# Altium integrated library Maxim Digital Potentiometers.IntLib: 1045 symbols (part 13 of 42)
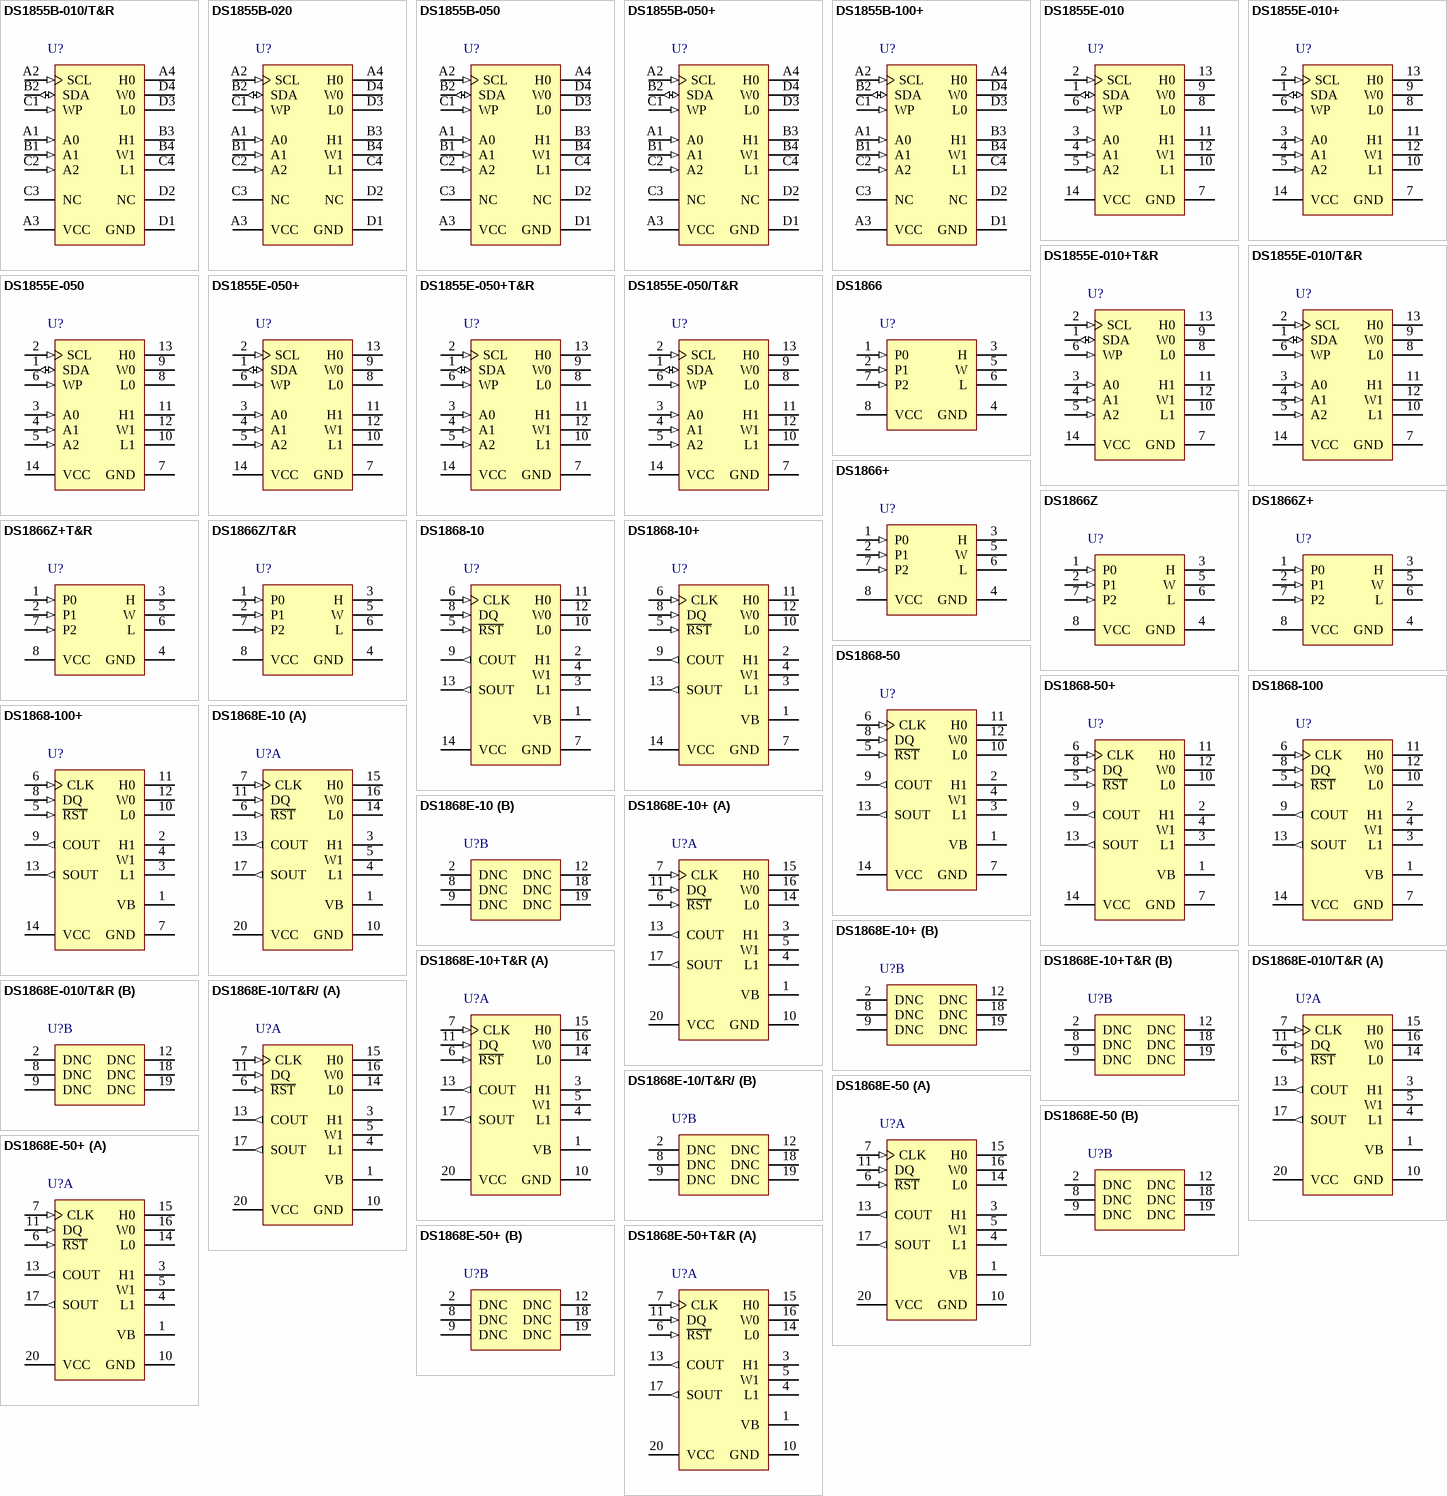
[diagram p41: symbols DS1855B-010/T&R to DS1868E-50+T&R]

## DS1855E-010+
designator U?
Dual NV Potentiometer and Secure Memory with 2-Wire Addressable Control Interface, Non-Volatile, Linear Taper, 100+256 Steps, -40 to 85 degC, 14-pin TSSOP (U14+1), Pb-Free; PartNumber: DS1855E-010+; DatasheetVersion: Rev. 1; PackageVersion: Rev. L, 07/2010; PackageReference: U14+1; PackageDescription: 14-Pin Thin Shrink Small-Outline Package (U14+1), Body 5 x 4.4 mm, Pitch 0.65 mm; Supplier 1: Digi-Key; Supplier Part Number 1: DS1855E-010+-ND; Supplier 2: Mouser; Supplier Part Number 2: 700-DS1855E-010; Applications: Fiber Communications, GBIC; Control Interface: 2-Wire Addressable; Features: 256-Byte User EEPROM, EEPROM Wiper Memory ,GBIC; Mounting Technology: Surface Mount; Code_JEDEC: MO-153; ComponentLink1Description: Manufacturer URL; ComponentLink1URL: http://www.maximintegrated.com/; ComponentLink2Description: Datasheet; ComponentLink2URL: http://datasheets.maximintegrated.com/en/ds/DS1855.pdf; ComponentLink3Description: Package Specification; ComponentLink3URL: http://pdfserv.maximintegrated.com/package_dwgs/21-0066.PDF
footprint MAXM-U14+1_N (SOP, 14-Leads, Body 5x4.4mm, Pitch 0.65mm, IPC Medium Density)
footprint MAXM-U14+1_L (SOP, 14-Leads, Body 5x4.4mm, Pitch 0.65mm, IPC High Density)
footprint MAXM-U14+1_M (SOP, 14-Leads, Body 5x4.4mm, Pitch 0.65mm, IPC Low Density)
pins: 1 SDA (io) "2-Wire serial data interface. The serial data pin is for serial data transfer to and from the DS1855. The pin is open drain and may be wire-ORed with other open drain or open collector interfaces.", 2 SCL (in) "2-Wire Serial Clock Input. The serial clock input is used to clock data into the DS1855 on rising edges and clock data out on falling edges.", 3 A0 (in) "Address Input. Pins A0, A1, and A2 are used to specify the address of each DS1855 when used in a multi-dropped configuration. Up to eight DS1855s may be addressed on a single 2-wire bus.", 4 A1 (in) "Address Input.", 5 A2 (in) "Address Input.", 6 WP (in) "Write Protect Input. If set to logic 0, the data in memory and the potentiometer wiper setting may be changed. If set to logic 1, both the memory and the potentiometer wiper settings will be write protected. The WP pin is (See Datasheet)", 7 GND (power) "Ground Terminal.", 8 L0 "Low terminal of Potentiometer 0. For both potentiometers, it is not required that the low terminal be connected to a potential less than the high terminal. Voltage applied to the low terminal of each potentiometer cannot (See Datasheet)", 9 W0 "Wiper terminal of Pot 0. The wiper position of Potentiometer 0 is determined by the byte at EEPROM memory location F9h. Voltage applied to the wiper terminal of each potentiometer cannot exceed the power supply voltage, VCC, (See Datasheet)", 10 L1 "Low terminal of Potentiometer 1.", 11 H1 "High terminal of Potentiometer 1.", 12 W1 "Wiper terminal of Pot 1. The wiper position of Potentiometer 1 is determined by the byte at EEPROM memory location F8h.", 13 H0 "High terminal of Potentiometer 0. For both potentiometers, it is not required that the high terminal be connected to a potential greater than the low terminal. Voltage applied to the high terminal of each potentiometer (See Datasheet)", 14 VCC (power) "Power Supply Terminal. The DS1855 will support supply voltages ranging from +2.7V to +5.5V."

## DS1855E-010+T&R
designator U?
Dual NV Potentiometer and Secure Memory with 2-Wire Addressable Control Interface, Non-Volatile, Linear Taper, 100+256 Steps, -40 to 85 degC, 14-pin TSSOP (U14+1), Pb-Free, Tape and Reel; PartNumber: DS1855E-010+T&R; DatasheetVersion: Rev. 1; PackageVersion: Rev. L, 07/2010; PackageReference: U14+1; PackageDescription: 14-Pin Thin Shrink Small-Outline Package (U14+1), Body 5 x 4.4 mm, Pitch 0.65 mm; Supplier 1: Digi-Key; Supplier Part Number 1: DS1855E-010+T&R-ND; Supplier 2: Mouser; Supplier Part Number 2: 700-DS1855E-010T&R; Applications: Fiber Communications, GBIC; Control Interface: 2-Wire Addressable; Features: 256-Byte User EEPROM, EEPROM Wiper Memory ,GBIC; Mounting Technology: Surface Mount; Code_JEDEC: MO-153; ComponentLink1Description: Manufacturer URL; ComponentLink1URL: http://www.maximintegrated.com/; ComponentLink2Description: Datasheet; ComponentLink2URL: http://datasheets.maximintegrated.com/en/ds/DS1855.pdf; ComponentLink3Description: Package Specification; ComponentLink3URL: http://pdfserv.maximintegrated.com/package_dwgs/21-0066.PDF
footprint MAXM-U14+1_N (SOP, 14-Leads, Body 5x4.4mm, Pitch 0.65mm, IPC Medium Density)
footprint MAXM-U14+1_L (SOP, 14-Leads, Body 5x4.4mm, Pitch 0.65mm, IPC High Density)
footprint MAXM-U14+1_M (SOP, 14-Leads, Body 5x4.4mm, Pitch 0.65mm, IPC Low Density)
pins: 1 SDA (io) "2-Wire serial data interface. The serial data pin is for serial data transfer to and from the DS1855. The pin is open drain and may be wire-ORed with other open drain or open collector interfaces.", 2 SCL (in) "2-Wire Serial Clock Input. The serial clock input is used to clock data into the DS1855 on rising edges and clock data out on falling edges.", 3 A0 (in) "Address Input. Pins A0, A1, and A2 are used to specify the address of each DS1855 when used in a multi-dropped configuration. Up to eight DS1855s may be addressed on a single 2-wire bus.", 4 A1 (in) "Address Input.", 5 A2 (in) "Address Input.", 6 WP (in) "Write Protect Input. If set to logic 0, the data in memory and the potentiometer wiper setting may be changed. If set to logic 1, both the memory and the potentiometer wiper settings will be write protected. The WP pin is (See Datasheet)", 7 GND (power) "Ground Terminal.", 8 L0 "Low terminal of Potentiometer 0. For both potentiometers, it is not required that the low terminal be connected to a potential less than the high terminal. Voltage applied to the low terminal of each potentiometer cannot (See Datasheet)", 9 W0 "Wiper terminal of Pot 0. The wiper position of Potentiometer 0 is determined by the byte at EEPROM memory location F9h. Voltage applied to the wiper terminal of each potentiometer cannot exceed the power supply voltage, VCC, (See Datasheet)", 10 L1 "Low terminal of Potentiometer 1.", 11 H1 "High terminal of Potentiometer 1.", 12 W1 "Wiper terminal of Pot 1. The wiper position of Potentiometer 1 is determined by the byte at EEPROM memory location F8h.", 13 H0 "High terminal of Potentiometer 0. For both potentiometers, it is not required that the high terminal be connected to a potential greater than the low terminal. Voltage applied to the high terminal of each potentiometer (See Datasheet)", 14 VCC (power) "Power Supply Terminal. The DS1855 will support supply voltages ranging from +2.7V to +5.5V."

## DS1855E-010/T&R
designator U?
Dual NV Potentiometer and Secure Memory with 2-Wire Addressable Control Interface, Non-Volatile, Linear Taper, 100+256 Steps, -40 to 85 degC, 14-pin TSSOP (U14-1), Tape and Reel; PartNumber: DS1855E-010/T&R; DatasheetVersion: Rev. 1; PackageVersion: Rev. L, 07/2010; PackageReference: U14-1; PackageDescription: 14-Pin Thin Shrink Small-Outline Package (U14-1), Body 5 x 4.4 mm, Pitch 0.65 mm; Supplier 1: Digi-Key; Supplier Part Number 1: DS1855E-010/T&R-ND; Supplier 2: Mouser; Supplier Part Number 2: N/A; Applications: Fiber Communications, GBIC; Control Interface: 2-Wire Addressable; Features: 256-Byte User EEPROM, EEPROM Wiper Memory ,GBIC; Mounting Technology: Surface Mount; Code_JEDEC: MO-153; ComponentLink1Description: Manufacturer URL; ComponentLink1URL: http://www.maximintegrated.com/; ComponentLink2Description: Datasheet; ComponentLink2URL: http://datasheets.maximintegrated.com/en/ds/DS1855.pdf; ComponentLink3Description: Package Specification; ComponentLink3URL: http://pdfserv.maximintegrated.com/package_dwgs/21-0066.PDF
footprint MAXM-U14-1_N (SOP, 14-Leads, Body 5x4.4mm, Pitch 0.65mm, IPC Medium Density)
footprint MAXM-U14-1_L (SOP, 14-Leads, Body 5x4.4mm, Pitch 0.65mm, IPC High Density)
footprint MAXM-U14-1_M (SOP, 14-Leads, Body 5x4.4mm, Pitch 0.65mm, IPC Low Density)
pins: 1 SDA (io) "2-Wire serial data interface. The serial data pin is for serial data transfer to and from the DS1855. The pin is open drain and may be wire-ORed with other open drain or open collector interfaces.", 2 SCL (in) "2-Wire Serial Clock Input. The serial clock input is used to clock data into the DS1855 on rising edges and clock data out on falling edges.", 3 A0 (in) "Address Input. Pins A0, A1, and A2 are used to specify the address of each DS1855 when used in a multi-dropped configuration. Up to eight DS1855s may be addressed on a single 2-wire bus.", 4 A1 (in) "Address Input.", 5 A2 (in) "Address Input.", 6 WP (in) "Write Protect Input. If set to logic 0, the data in memory and the potentiometer wiper setting may be changed. If set to logic 1, both the memory and the potentiometer wiper settings will be write protected. The WP pin is (See Datasheet)", 7 GND (power) "Ground Terminal.", 8 L0 "Low terminal of Potentiometer 0. For both potentiometers, it is not required that the low terminal be connected to a potential less than the high terminal. Voltage applied to the low terminal of each potentiometer cannot (See Datasheet)", 9 W0 "Wiper terminal of Pot 0. The wiper position of Potentiometer 0 is determined by the byte at EEPROM memory location F9h. Voltage applied to the wiper terminal of each potentiometer cannot exceed the power supply voltage, VCC, (See Datasheet)", 10 L1 "Low terminal of Potentiometer 1.", 11 H1 "High terminal of Potentiometer 1.", 12 W1 "Wiper terminal of Pot 1. The wiper position of Potentiometer 1 is determined by the byte at EEPROM memory location F8h.", 13 H0 "High terminal of Potentiometer 0. For both potentiometers, it is not required that the high terminal be connected to a potential greater than the low terminal. Voltage applied to the high terminal of each potentiometer (See Datasheet)", 14 VCC (power) "Power Supply Terminal. The DS1855 will support supply voltages ranging from +2.7V to +5.5V."

## DS1855E-050
designator U?
Dual NV Potentiometer and Secure Memory with 2-Wire Addressable Control Interface, Non-Volatile, Linear Taper, 100+256 Steps, -40 to 85 degC, 14-pin TSSOP (U14-1); PartNumber: DS1855E-050; DatasheetVersion: Rev. 1; PackageVersion: Rev. L, 07/2010; PackageReference: U14-1; PackageDescription: 14-Pin Thin Shrink Small-Outline Package (U14-1), Body 5 x 4.4 mm, Pitch 0.65 mm; Supplier 1: Mouser; Supplier Part Number 1: N/A; Applications: Fiber Communications, GBIC; Control Interface: 2-Wire Addressable; Features: 256-Byte User EEPROM, EEPROM Wiper Memory ,GBIC; Mounting Technology: Surface Mount; Code_JEDEC: MO-153; ComponentLink1Description: Manufacturer URL; ComponentLink1URL: http://www.maximintegrated.com/; ComponentLink2Description: Datasheet; ComponentLink2URL: http://datasheets.maximintegrated.com/en/ds/DS1855.pdf; ComponentLink3Description: Package Specification; ComponentLink3URL: http://pdfserv.maximintegrated.com/package_dwgs/21-0066.PDF
footprint MAXM-U14-1_N (SOP, 14-Leads, Body 5x4.4mm, Pitch 0.65mm, IPC Medium Density)
footprint MAXM-U14-1_L (SOP, 14-Leads, Body 5x4.4mm, Pitch 0.65mm, IPC High Density)
footprint MAXM-U14-1_M (SOP, 14-Leads, Body 5x4.4mm, Pitch 0.65mm, IPC Low Density)
pins: 1 SDA (io) "2-Wire serial data interface. The serial data pin is for serial data transfer to and from the DS1855. The pin is open drain and may be wire-ORed with other open drain or open collector interfaces.", 2 SCL (in) "2-Wire Serial Clock Input. The serial clock input is used to clock data into the DS1855 on rising edges and clock data out on falling edges.", 3 A0 (in) "Address Input. Pins A0, A1, and A2 are used to specify the address of each DS1855 when used in a multi-dropped configuration. Up to eight DS1855s may be addressed on a single 2-wire bus.", 4 A1 (in) "Address Input.", 5 A2 (in) "Address Input.", 6 WP (in) "Write Protect Input. If set to logic 0, the data in memory and the potentiometer wiper setting may be changed. If set to logic 1, both the memory and the potentiometer wiper settings will be write protected. The WP pin is (See Datasheet)", 7 GND (power) "Ground Terminal.", 8 L0 "Low terminal of Potentiometer 0. For both potentiometers, it is not required that the low terminal be connected to a potential less than the high terminal. Voltage applied to the low terminal of each potentiometer cannot (See Datasheet)", 9 W0 "Wiper terminal of Pot 0. The wiper position of Potentiometer 0 is determined by the byte at EEPROM memory location F9h. Voltage applied to the wiper terminal of each potentiometer cannot exceed the power supply voltage, VCC, (See Datasheet)", 10 L1 "Low terminal of Potentiometer 1.", 11 H1 "High terminal of Potentiometer 1.", 12 W1 "Wiper terminal of Pot 1. The wiper position of Potentiometer 1 is determined by the byte at EEPROM memory location F8h.", 13 H0 "High terminal of Potentiometer 0. For both potentiometers, it is not required that the high terminal be connected to a potential greater than the low terminal. Voltage applied to the high terminal of each potentiometer (See Datasheet)", 14 VCC (power) "Power Supply Terminal. The DS1855 will support supply voltages ranging from +2.7V to +5.5V."

## DS1855E-050+
designator U?
Dual NV Potentiometer and Secure Memory with 2-Wire Addressable Control Interface, Non-Volatile, Linear Taper, 100+256 Steps, -40 to 85 degC, 14-pin TSSOP (U14+1), Pb-Free; PartNumber: DS1855E-050+; DatasheetVersion: Rev. 1; PackageVersion: Rev. L, 07/2010; PackageReference: U14+1; PackageDescription: 14-Pin Thin Shrink Small-Outline Package (U14+1), Body 5 x 4.4 mm, Pitch 0.65 mm; Supplier 1: Digi-Key; Supplier Part Number 1: DS1855E-050+-ND; Supplier 2: Mouser; Supplier Part Number 2: 700-DS1855E-050; Applications: Fiber Communications, GBIC; Control Interface: 2-Wire Addressable; Features: 256-Byte User EEPROM, EEPROM Wiper Memory ,GBIC; Mounting Technology: Surface Mount; Code_JEDEC: MO-153; ComponentLink1Description: Manufacturer URL; ComponentLink1URL: http://www.maximintegrated.com/; ComponentLink2Description: Datasheet; ComponentLink2URL: http://datasheets.maximintegrated.com/en/ds/DS1855.pdf; ComponentLink3Description: Package Specification; ComponentLink3URL: http://pdfserv.maximintegrated.com/package_dwgs/21-0066.PDF
footprint MAXM-U14+1_N (SOP, 14-Leads, Body 5x4.4mm, Pitch 0.65mm, IPC Medium Density)
footprint MAXM-U14+1_L (SOP, 14-Leads, Body 5x4.4mm, Pitch 0.65mm, IPC High Density)
footprint MAXM-U14+1_M (SOP, 14-Leads, Body 5x4.4mm, Pitch 0.65mm, IPC Low Density)
pins: 1 SDA (io) "2-Wire serial data interface. The serial data pin is for serial data transfer to and from the DS1855. The pin is open drain and may be wire-ORed with other open drain or open collector interfaces.", 2 SCL (in) "2-Wire Serial Clock Input. The serial clock input is used to clock data into the DS1855 on rising edges and clock data out on falling edges.", 3 A0 (in) "Address Input. Pins A0, A1, and A2 are used to specify the address of each DS1855 when used in a multi-dropped configuration. Up to eight DS1855s may be addressed on a single 2-wire bus.", 4 A1 (in) "Address Input.", 5 A2 (in) "Address Input.", 6 WP (in) "Write Protect Input. If set to logic 0, the data in memory and the potentiometer wiper setting may be changed. If set to logic 1, both the memory and the potentiometer wiper settings will be write protected. The WP pin is (See Datasheet)", 7 GND (power) "Ground Terminal.", 8 L0 "Low terminal of Potentiometer 0. For both potentiometers, it is not required that the low terminal be connected to a potential less than the high terminal. Voltage applied to the low terminal of each potentiometer cannot (See Datasheet)", 9 W0 "Wiper terminal of Pot 0. The wiper position of Potentiometer 0 is determined by the byte at EEPROM memory location F9h. Voltage applied to the wiper terminal of each potentiometer cannot exceed the power supply voltage, VCC, (See Datasheet)", 10 L1 "Low terminal of Potentiometer 1.", 11 H1 "High terminal of Potentiometer 1.", 12 W1 "Wiper terminal of Pot 1. The wiper position of Potentiometer 1 is determined by the byte at EEPROM memory location F8h.", 13 H0 "High terminal of Potentiometer 0. For both potentiometers, it is not required that the high terminal be connected to a potential greater than the low terminal. Voltage applied to the high terminal of each potentiometer (See Datasheet)", 14 VCC (power) "Power Supply Terminal. The DS1855 will support supply voltages ranging from +2.7V to +5.5V."

## DS1855E-050+T&R
designator U?
Dual NV Potentiometer and Secure Memory with 2-Wire Addressable Control Interface, Non-Volatile, Linear Taper, 100+256 Steps, -40 to 85 degC, 14-pin TSSOP (U14+1), Pb-Free, Tape and Reel; PartNumber: DS1855E-050+T&R; DatasheetVersion: Rev. 1; PackageVersion: Rev. L, 07/2010; PackageReference: U14+1; PackageDescription: 14-Pin Thin Shrink Small-Outline Package (U14+1), Body 5 x 4.4 mm, Pitch 0.65 mm; Supplier 1: Digi-Key; Supplier Part Number 1: DS1855E-050+T&R-ND; Supplier 2: Mouser; Supplier Part Number 2: 700-DS1855E-050T&R; Applications: Fiber Communications, GBIC; Control Interface: 2-Wire Addressable; Features: 256-Byte User EEPROM, EEPROM Wiper Memory ,GBIC; Mounting Technology: Surface Mount; Code_JEDEC: MO-153; ComponentLink1Description: Manufacturer URL; ComponentLink1URL: http://www.maximintegrated.com/; ComponentLink2Description: Datasheet; ComponentLink2URL: http://datasheets.maximintegrated.com/en/ds/DS1855.pdf; ComponentLink3Description: Package Specification; ComponentLink3URL: http://pdfserv.maximintegrated.com/package_dwgs/21-0066.PDF
footprint MAXM-U14+1_N (SOP, 14-Leads, Body 5x4.4mm, Pitch 0.65mm, IPC Medium Density)
footprint MAXM-U14+1_L (SOP, 14-Leads, Body 5x4.4mm, Pitch 0.65mm, IPC High Density)
footprint MAXM-U14+1_M (SOP, 14-Leads, Body 5x4.4mm, Pitch 0.65mm, IPC Low Density)
pins: 1 SDA (io) "2-Wire serial data interface. The serial data pin is for serial data transfer to and from the DS1855. The pin is open drain and may be wire-ORed with other open drain or open collector interfaces.", 2 SCL (in) "2-Wire Serial Clock Input. The serial clock input is used to clock data into the DS1855 on rising edges and clock data out on falling edges.", 3 A0 (in) "Address Input. Pins A0, A1, and A2 are used to specify the address of each DS1855 when used in a multi-dropped configuration. Up to eight DS1855s may be addressed on a single 2-wire bus.", 4 A1 (in) "Address Input.", 5 A2 (in) "Address Input.", 6 WP (in) "Write Protect Input. If set to logic 0, the data in memory and the potentiometer wiper setting may be changed. If set to logic 1, both the memory and the potentiometer wiper settings will be write protected. The WP pin is (See Datasheet)", 7 GND (power) "Ground Terminal.", 8 L0 "Low terminal of Potentiometer 0. For both potentiometers, it is not required that the low terminal be connected to a potential less than the high terminal. Voltage applied to the low terminal of each potentiometer cannot (See Datasheet)", 9 W0 "Wiper terminal of Pot 0. The wiper position of Potentiometer 0 is determined by the byte at EEPROM memory location F9h. Voltage applied to the wiper terminal of each potentiometer cannot exceed the power supply voltage, VCC, (See Datasheet)", 10 L1 "Low terminal of Potentiometer 1.", 11 H1 "High terminal of Potentiometer 1.", 12 W1 "Wiper terminal of Pot 1. The wiper position of Potentiometer 1 is determined by the byte at EEPROM memory location F8h.", 13 H0 "High terminal of Potentiometer 0. For both potentiometers, it is not required that the high terminal be connected to a potential greater than the low terminal. Voltage applied to the high terminal of each potentiometer (See Datasheet)", 14 VCC (power) "Power Supply Terminal. The DS1855 will support supply voltages ranging from +2.7V to +5.5V."

## DS1855E-050/T&R
designator U?
Dual NV Potentiometer and Secure Memory with 2-Wire Addressable Control Interface, Non-Volatile, Linear Taper, 100+256 Steps, -40 to 85 degC, 14-pin TSSOP (U14-1), Tape and Reel; PartNumber: DS1855E-050/T&R; DatasheetVersion: Rev. 1; PackageVersion: Rev. L, 07/2010; PackageReference: U14-1; PackageDescription: 14-Pin Thin Shrink Small-Outline Package (U14-1), Body 5 x 4.4 mm, Pitch 0.65 mm; Supplier 1: Digi-Key; Supplier Part Number 1: DS1855E-050/T&R-ND; Supplier 2: Mouser; Supplier Part Number 2: N/A; Applications: Fiber Communications, GBIC; Control Interface: 2-Wire Addressable; Features: 256-Byte User EEPROM, EEPROM Wiper Memory ,GBIC; Mounting Technology: Surface Mount; Code_JEDEC: MO-153; ComponentLink1Description: Manufacturer URL; ComponentLink1URL: http://www.maximintegrated.com/; ComponentLink2Description: Datasheet; ComponentLink2URL: http://datasheets.maximintegrated.com/en/ds/DS1855.pdf; ComponentLink3Description: Package Specification; ComponentLink3URL: http://pdfserv.maximintegrated.com/package_dwgs/21-0066.PDF
footprint MAXM-U14-1_N (SOP, 14-Leads, Body 5x4.4mm, Pitch 0.65mm, IPC Medium Density)
footprint MAXM-U14-1_L (SOP, 14-Leads, Body 5x4.4mm, Pitch 0.65mm, IPC High Density)
footprint MAXM-U14-1_M (SOP, 14-Leads, Body 5x4.4mm, Pitch 0.65mm, IPC Low Density)
pins: 1 SDA (io) "2-Wire serial data interface. The serial data pin is for serial data transfer to and from the DS1855. The pin is open drain and may be wire-ORed with other open drain or open collector interfaces.", 2 SCL (in) "2-Wire Serial Clock Input. The serial clock input is used to clock data into the DS1855 on rising edges and clock data out on falling edges.", 3 A0 (in) "Address Input. Pins A0, A1, and A2 are used to specify the address of each DS1855 when used in a multi-dropped configuration. Up to eight DS1855s may be addressed on a single 2-wire bus.", 4 A1 (in) "Address Input.", 5 A2 (in) "Address Input.", 6 WP (in) "Write Protect Input. If set to logic 0, the data in memory and the potentiometer wiper setting may be changed. If set to logic 1, both the memory and the potentiometer wiper settings will be write protected. The WP pin is (See Datasheet)", 7 GND (power) "Ground Terminal.", 8 L0 "Low terminal of Potentiometer 0. For both potentiometers, it is not required that the low terminal be connected to a potential less than the high terminal. Voltage applied to the low terminal of each potentiometer cannot (See Datasheet)", 9 W0 "Wiper terminal of Pot 0. The wiper position of Potentiometer 0 is determined by the byte at EEPROM memory location F9h. Voltage applied to the wiper terminal of each potentiometer cannot exceed the power supply voltage, VCC, (See Datasheet)", 10 L1 "Low terminal of Potentiometer 1.", 11 H1 "High terminal of Potentiometer 1.", 12 W1 "Wiper terminal of Pot 1. The wiper position of Potentiometer 1 is determined by the byte at EEPROM memory location F8h.", 13 H0 "High terminal of Potentiometer 0. For both potentiometers, it is not required that the high terminal be connected to a potential greater than the low terminal. Voltage applied to the high terminal of each potentiometer (See Datasheet)", 14 VCC (power) "Power Supply Terminal. The DS1855 will support supply voltages ranging from +2.7V to +5.5V."

## DS1866
designator U?
Trimmer Potentiometer with 3-Input Parallel Control Interface, Volatile, Log Taper, 8 Steps, -40 to 85 degC, 8-pin PDIP (P8-1); PartNumber: DS1866; PackageVersion: Rev. E, 04/2011; PackageReference: P8-1; PackageDescription: 8-Pin Plastic Dual-In-Line, Narrow (0.3in) (P8-1), Body 9.375 x 6.985 mm, Pitch 2.54 mm; Supplier 1: Digi-Key; Supplier Part Number 1: DS1866-ND; Supplier 2: Mouser; Supplier Part Number 2: N/A; Applications: Audio Control; Control Interface: 3-Input Parallel; Mounting Technology: Through Hole; Code_JEDEC: MS001-XX; ComponentLink1Description: Manufacturer URL; ComponentLink1URL: http://www.maximintegrated.com/; ComponentLink2Description: Datasheet; ComponentLink2URL: http://datasheets.maximintegrated.com/en/ds/DS1866.pdf; ComponentLink3Description: Package Specification; ComponentLink3URL: http://pdfserv.maximintegrated.com/package_dwgs/21-0043.PDF
footprint MAXM-P8-1 (DIP, 8-Leads, Body 9.375x6.985mm, Pitch 2.54mm)
pins: 1 P0 (in) "Bit 0. P0 is the bit 0 data input to the parallel port.", 2 P1 (in) "Bit 1. P1 is the bit 1 data input to the parallel port.", 3 H "High-end Resistor. This is the high-end terminal of the potentiometer. It is not required that this terminal be connected to a potential greater than the L-terminal.  Maximum voltage on the H-terminal can not exceed the (See Datasheet)", 4 GND (power) "Ground Terminal", 5 W "Wiper of the Potentiometer. This pin is the wiper terminal of the potentiometer. Its position on the resistor array is controlled by the 3-terminal parallel port. Maximum voltage on the W-terminal can not exceed the power (See Datasheet)", 6 L "This is the low-end terminal of the potentiometer. It is not required that this terminal be connected to a potential less than the H-terminal. Maximum voltage on the L-terminal can not exceed the power-supply voltage, VCC, (See Datasheet)", 7 P2 (in) "Bit 2. P2 is the bit 2 data input to the parallel port.", 8 VCC (power) "Power Supply Terminal. The DS1866 will support supply voltages ranging from +2.7 to +5.5 volts."

## DS1866+
designator U?
Trimmer Potentiometer with 3-Input Parallel Control Interface, Volatile, Log Taper, 8 Steps, -40 to 85 degC, 8-pin PDIP (P8+1), Pb-Free; PartNumber: DS1866+; PackageVersion: Rev. E, 04/2011; PackageReference: P8+1; PackageDescription: 8-Pin Plastic Dual-In-Line, Narrow (0.3in) (P8+1), Body 9.375 x 6.985 mm, Pitch 2.54 mm; Supplier 1: Digi-Key; Supplier Part Number 1: DS1866+-ND; Supplier 2: Farnell; Supplier Part Number 2: 1815548; Supplier 3: Newark; Supplier Part Number 3: 60K9363; Supplier 4: Mouser; Supplier Part Number 4: 700-DS1866; Applications: Audio Control; Control Interface: 3-Input Parallel; Mounting Technology: Through Hole; Code_JEDEC: MS001-XX; ComponentLink1Description: Manufacturer URL; ComponentLink1URL: http://www.maximintegrated.com/; ComponentLink2Description: Datasheet; ComponentLink2URL: http://datasheets.maximintegrated.com/en/ds/DS1866.pdf; ComponentLink3Description: Package Specification; ComponentLink3URL: http://pdfserv.maximintegrated.com/package_dwgs/21-0043.PDF
footprint MAXM-P8+1 (DIP, 8-Leads, Body 9.375x6.985mm, Pitch 2.54mm)
pins: 1 P0 (in) "Bit 0. P0 is the bit 0 data input to the parallel port.", 2 P1 (in) "Bit 1. P1 is the bit 1 data input to the parallel port.", 3 H "High-end Resistor. This is the high-end terminal of the potentiometer. It is not required that this terminal be connected to a potential greater than the L-terminal.  Maximum voltage on the H-terminal can not exceed the (See Datasheet)", 4 GND (power) "Ground Terminal", 5 W "Wiper of the Potentiometer. This pin is the wiper terminal of the potentiometer. Its position on the resistor array is controlled by the 3-terminal parallel port. Maximum voltage on the W-terminal can not exceed the power (See Datasheet)", 6 L "This is the low-end terminal of the potentiometer. It is not required that this terminal be connected to a potential less than the H-terminal. Maximum voltage on the L-terminal can not exceed the power-supply voltage, VCC, (See Datasheet)", 7 P2 (in) "Bit 2. P2 is the bit 2 data input to the parallel port.", 8 VCC (power) "Power Supply Terminal. The DS1866 will support supply voltages ranging from +2.7 to +5.5 volts."

## DS1866Z
designator U?
Trimmer Potentiometer with 3-Input Parallel Control Interface, Volatile, Log Taper, 8 Steps, -40 to 85 degC, 8-pin SOIC (S8-2); PartNumber: DS1866Z; PackageVersion: Rev. D, 10/2012; PackageReference: S8-2; PackageDescription: 8-Pin Small-Outline IC, Narrow (0.15in) (S8-2), Body 4.90 x 3.90 mm, Pitch 1.27 mm; Supplier 1: Digi-Key; Supplier Part Number 1: DS1866Z-ND; Supplier 2: Mouser; Supplier Part Number 2: 700-DS1866Z-NR; Applications: Audio Control; Control Interface: 3-Input Parallel; Mounting Technology: Surface Mount; Code_JEDEC: MS012; ComponentLink1Description: Manufacturer URL; ComponentLink1URL: http://www.maximintegrated.com/; ComponentLink2Description: Datasheet; ComponentLink2URL: http://datasheets.maximintegrated.com/en/ds/DS1866.pdf; ComponentLink3Description: Package Specification; ComponentLink3URL: http://pdfserv.maximintegrated.com/package_dwgs/21-0041.PDF
footprint MAXM-S8-2_N (SOIC, 8-Leads, Body 4.90x3.90mm, Pitch 1.27mm, IPC Medium Density)
footprint MAXM-S8-2_L (SOIC, 8-Leads, Body 4.90x3.90mm, Pitch 1.27mm, IPC High Density)
footprint MAXM-S8-2_M (SOIC, 8-Leads, Body 4.90x3.90mm, Pitch 1.27mm, IPC Low Density)
pins: 1 P0 (in) "Bit 0. P0 is the bit 0 data input to the parallel port.", 2 P1 (in) "Bit 1. P1 is the bit 1 data input to the parallel port.", 3 H "High-end Resistor. This is the high-end terminal of the potentiometer. It is not required that this terminal be connected to a potential greater than the L-terminal.  Maximum voltage on the H-terminal can not exceed the (See Datasheet)", 4 GND (power) "Ground Terminal", 5 W "Wiper of the Potentiometer. This pin is the wiper terminal of the potentiometer. Its position on the resistor array is controlled by the 3-terminal parallel port. Maximum voltage on the W-terminal can not exceed the power (See Datasheet)", 6 L "This is the low-end terminal of the potentiometer. It is not required that this terminal be connected to a potential less than the H-terminal. Maximum voltage on the L-terminal can not exceed the power-supply voltage, VCC, (See Datasheet)", 7 P2 (in) "Bit 2. P2 is the bit 2 data input to the parallel port.", 8 VCC (power) "Power Supply Terminal. The DS1866 will support supply voltages ranging from +2.7 to +5.5 volts."

## DS1866Z+
designator U?
Trimmer Potentiometer with 3-Input Parallel Control Interface, Volatile, Log Taper, 8 Steps, -40 to 85 degC, 8-pin SOIC (S8+2), Pb-Free; PartNumber: DS1866Z+; PackageVersion: Rev. D, 10/2012; PackageReference: S8+2; PackageDescription: 8-Pin Small-Outline IC, Narrow (0.15in) (S8+2), Body 4.90 x 3.90 mm, Pitch 1.27 mm; Supplier 1: Digi-Key; Supplier Part Number 1: DS1866Z+-ND; Supplier 2: Mouser; Supplier Part Number 2: 700-DS1866Z; Applications: Audio Control; Control Interface: 3-Input Parallel; Mounting Technology: Surface Mount; Code_JEDEC: MS012; ComponentLink1Description: Manufacturer URL; ComponentLink1URL: http://www.maximintegrated.com/; ComponentLink2Description: Datasheet; ComponentLink2URL: http://datasheets.maximintegrated.com/en/ds/DS1866.pdf; ComponentLink3Description: Package Specification; ComponentLink3URL: http://pdfserv.maximintegrated.com/package_dwgs/21-0041.PDF
footprint MAXM-S8+2_N (SOIC, 8-Leads, Body 4.90x3.90mm, Pitch 1.27mm, IPC Medium Density)
footprint MAXM-S8+2_L (SOIC, 8-Leads, Body 4.90x3.90mm, Pitch 1.27mm, IPC High Density)
footprint MAXM-S8+2_M (SOIC, 8-Leads, Body 4.90x3.90mm, Pitch 1.27mm, IPC Low Density)
pins: 1 P0 (in) "Bit 0. P0 is the bit 0 data input to the parallel port.", 2 P1 (in) "Bit 1. P1 is the bit 1 data input to the parallel port.", 3 H "High-end Resistor. This is the high-end terminal of the potentiometer. It is not required that this terminal be connected to a potential greater than the L-terminal.  Maximum voltage on the H-terminal can not exceed the (See Datasheet)", 4 GND (power) "Ground Terminal", 5 W "Wiper of the Potentiometer. This pin is the wiper terminal of the potentiometer. Its position on the resistor array is controlled by the 3-terminal parallel port. Maximum voltage on the W-terminal can not exceed the power (See Datasheet)", 6 L "This is the low-end terminal of the potentiometer. It is not required that this terminal be connected to a potential less than the H-terminal. Maximum voltage on the L-terminal can not exceed the power-supply voltage, VCC, (See Datasheet)", 7 P2 (in) "Bit 2. P2 is the bit 2 data input to the parallel port.", 8 VCC (power) "Power Supply Terminal. The DS1866 will support supply voltages ranging from +2.7 to +5.5 volts."

## DS1866Z+T&R
designator U?
Trimmer Potentiometer with 3-Input Parallel Control Interface, Volatile, Log Taper, 8 Steps, -40 to 85 degC, 8-pin SOIC (S8+2), Pb-Free, Tape and Reel; PartNumber: DS1866Z+T&R; PackageVersion: Rev. D, 10/2012; PackageReference: S8+2; PackageDescription: 8-Pin Small-Outline IC, Narrow (0.15in) (S8+2), Body 4.90 x 3.90 mm, Pitch 1.27 mm; Supplier 1: Digi-Key; Supplier Part Number 1: DS1866Z+T&R-ND; Supplier 2: Mouser; Supplier Part Number 2: 700-DS1866ZT&R; Applications: Audio Control; Control Interface: 3-Input Parallel; Mounting Technology: Surface Mount; Code_JEDEC: MS012; ComponentLink1Description: Manufacturer URL; ComponentLink1URL: http://www.maximintegrated.com/; ComponentLink2Description: Datasheet; ComponentLink2URL: http://datasheets.maximintegrated.com/en/ds/DS1866.pdf; ComponentLink3Description: Package Specification; ComponentLink3URL: http://pdfserv.maximintegrated.com/package_dwgs/21-0041.PDF
footprint MAXM-S8+2_N (SOIC, 8-Leads, Body 4.90x3.90mm, Pitch 1.27mm, IPC Medium Density)
footprint MAXM-S8+2_L (SOIC, 8-Leads, Body 4.90x3.90mm, Pitch 1.27mm, IPC High Density)
footprint MAXM-S8+2_M (SOIC, 8-Leads, Body 4.90x3.90mm, Pitch 1.27mm, IPC Low Density)
pins: 1 P0 (in) "Bit 0. P0 is the bit 0 data input to the parallel port.", 2 P1 (in) "Bit 1. P1 is the bit 1 data input to the parallel port.", 3 H "High-end Resistor. This is the high-end terminal of the potentiometer. It is not required that this terminal be connected to a potential greater than the L-terminal.  Maximum voltage on the H-terminal can not exceed the (See Datasheet)", 4 GND (power) "Ground Terminal", 5 W "Wiper of the Potentiometer. This pin is the wiper terminal of the potentiometer. Its position on the resistor array is controlled by the 3-terminal parallel port. Maximum voltage on the W-terminal can not exceed the power (See Datasheet)", 6 L "This is the low-end terminal of the potentiometer. It is not required that this terminal be connected to a potential less than the H-terminal. Maximum voltage on the L-terminal can not exceed the power-supply voltage, VCC, (See Datasheet)", 7 P2 (in) "Bit 2. P2 is the bit 2 data input to the parallel port.", 8 VCC (power) "Power Supply Terminal. The DS1866 will support supply voltages ranging from +2.7 to +5.5 volts."

## DS1866Z/T&R
designator U?
Trimmer Potentiometer with 3-Input Parallel Control Interface, Volatile, Log Taper, 8 Steps, -40 to 85 degC, 8-pin SOIC (S8-2), Tape and Reel; PartNumber: DS1866Z/T&R; PackageVersion: Rev. D, 10/2012; PackageReference: S8-2; PackageDescription: 8-Pin Small-Outline IC, Narrow (0.15in) (S8-2), Body 4.90 x 3.90 mm, Pitch 1.27 mm; Supplier 1: Digi-Key; Supplier Part Number 1: DS1866Z/T&R-ND; Supplier 2: Mouser; Supplier Part Number 2: N/A; Applications: Audio Control; Control Interface: 3-Input Parallel; Mounting Technology: Surface Mount; Code_JEDEC: MS012; ComponentLink1Description: Manufacturer URL; ComponentLink1URL: http://www.maximintegrated.com/; ComponentLink2Description: Datasheet; ComponentLink2URL: http://datasheets.maximintegrated.com/en/ds/DS1866.pdf; ComponentLink3Description: Package Specification; ComponentLink3URL: http://pdfserv.maximintegrated.com/package_dwgs/21-0041.PDF
footprint MAXM-S8-2_N (SOIC, 8-Leads, Body 4.90x3.90mm, Pitch 1.27mm, IPC Medium Density)
footprint MAXM-S8-2_L (SOIC, 8-Leads, Body 4.90x3.90mm, Pitch 1.27mm, IPC High Density)
footprint MAXM-S8-2_M (SOIC, 8-Leads, Body 4.90x3.90mm, Pitch 1.27mm, IPC Low Density)
pins: 1 P0 (in) "Bit 0. P0 is the bit 0 data input to the parallel port.", 2 P1 (in) "Bit 1. P1 is the bit 1 data input to the parallel port.", 3 H "High-end Resistor. This is the high-end terminal of the potentiometer. It is not required that this terminal be connected to a potential greater than the L-terminal.  Maximum voltage on the H-terminal can not exceed the (See Datasheet)", 4 GND (power) "Ground Terminal", 5 W "Wiper of the Potentiometer. This pin is the wiper terminal of the potentiometer. Its position on the resistor array is controlled by the 3-terminal parallel port. Maximum voltage on the W-terminal can not exceed the power (See Datasheet)", 6 L "This is the low-end terminal of the potentiometer. It is not required that this terminal be connected to a potential less than the H-terminal. Maximum voltage on the L-terminal can not exceed the power-supply voltage, VCC, (See Datasheet)", 7 P2 (in) "Bit 2. P2 is the bit 2 data input to the parallel port.", 8 VCC (power) "Power Supply Terminal. The DS1866 will support supply voltages ranging from +2.7 to +5.5 volts."

## DS1868-10
designator U?
Dual Digital Potentiometer Chip with 3-Wire Serial Control Interface, Volatile, Linear Taper, 256 Steps, -40 to 85 degC, 14-pin PDIP (P14-3); PartNumber: DS1868-10; DatasheetVersion: Rev. 1; PackageVersion: Rev. E, 04/2011; PackageReference: P14-3; PackageDescription: 14-Pin Plastic Dual-In-Line, Narrow (0.3in), Body 19.05 x 6.985 mm, Pitch 2.54 mm; Supplier 1: Digi-Key; Supplier Part Number 1: DS1868-10-ND; Supplier 2: Mouser; Supplier Part Number 2: N/A; Control Interface: 3-Wire Serial; Mounting Technology: Through Hole; Code_JEDEC: MS001-XX; ComponentLink1Description: Manufacturer URL; ComponentLink1URL: http://www.maximintegrated.com/; ComponentLink2Description: Datasheet; ComponentLink2URL: http://datasheets.maximintegrated.com/en/ds/DS1868.pdf; ComponentLink3Description: Package Specification; ComponentLink3URL: http://pdfserv.maximintegrated.com/package_dwgs/21-0043.PDF
footprint MAXM-P14-3 (DIP, 14-Leads, Body 19.05x6.985mm, Pitch 2.54mm)
pins: 1 VB (power) "Substrate Bias Voltage", 2 H1 "High End of Resistor", 3 L1 "Low End of Resistor", 4 W1 "Wiper Terminal of Resistor", 5 ~{RST} (in) "Serial Port Reset Input", 6 CLK (in) "Serial Port Clock Input", 7 GND (power) "Ground", 8 DQ (in) "Serial Port Data Input", 9 COUT (out) "Cascade Port Output", 10 L0 "Low End of Resistor", 11 H0 "High End of Resistor", 12 W0 "Wiper Terminal of Resistor", 13 SOUT (out) "Stacked Configuration Output", 14 VCC (power) "+5 Volt Supply"

## DS1868-10+
designator U?
Dual Digital Potentiometer Chip with 3-Wire Serial Control Interface, Volatile, Linear Taper, 256 Steps, -40 to 85 degC, 14-pin PDIP (P14+3), Pb-Free; PartNumber: DS1868-10+; DatasheetVersion: Rev. 1; PackageVersion: Rev. E, 04/2011; PackageReference: P14+3; PackageDescription: 14-Pin Plastic Dual-In-Line, Narrow (0.3in) (P14+3), Body 19.05 x 6.985 mm, Pitch 2.54 mm; Supplier 1: Digi-Key; Supplier Part Number 1: DS1868-10+-ND; Supplier 2: Mouser; Supplier Part Number 2: 700-DS1868-10; Control Interface: 3-Wire Serial; Mounting Technology: Through Hole; Code_JEDEC: MS001-XX; ComponentLink1Description: Manufacturer URL; ComponentLink1URL: http://www.maximintegrated.com/; ComponentLink2Description: Datasheet; ComponentLink2URL: http://datasheets.maximintegrated.com/en/ds/DS1868.pdf; ComponentLink3Description: Package Specification; ComponentLink3URL: http://pdfserv.maximintegrated.com/package_dwgs/21-0043.PDF
footprint MAXM-P14+3 (DIP, 14-Leads, Body 19.05x6.985mm, Pitch 2.54mm)
pins: 1 VB (power) "Substrate Bias Voltage", 2 H1 "High End of Resistor", 3 L1 "Low End of Resistor", 4 W1 "Wiper Terminal of Resistor", 5 ~{RST} (in) "Serial Port Reset Input", 6 CLK (in) "Serial Port Clock Input", 7 GND (power) "Ground", 8 DQ (in) "Serial Port Data Input", 9 COUT (out) "Cascade Port Output", 10 L0 "Low End of Resistor", 11 H0 "High End of Resistor", 12 W0 "Wiper Terminal of Resistor", 13 SOUT (out) "Stacked Configuration Output", 14 VCC (power) "+5 Volt Supply"

## DS1868-50
designator U?
Dual Digital Potentiometer Chip with 3-Wire Serial Control Interface, Volatile, Linear Taper, 256 Steps, -40 to 85 degC, 14-pin PDIP (P14-3); PartNumber: DS1868-50; DatasheetVersion: Rev. 1; PackageVersion: Rev. E, 04/2011; PackageReference: P14-3; PackageDescription: 14-Pin Plastic Dual-In-Line, Narrow (0.3in), Body 19.05 x 6.985 mm, Pitch 2.54 mm; Supplier 1: Digi-Key; Supplier Part Number 1: DS1868-50-ND; Supplier 2: Mouser; Supplier Part Number 2: N/A; Control Interface: 3-Wire Serial; Mounting Technology: Through Hole; Code_JEDEC: MS001-XX; ComponentLink1Description: Manufacturer URL; ComponentLink1URL: http://www.maximintegrated.com/; ComponentLink2Description: Datasheet; ComponentLink2URL: http://datasheets.maximintegrated.com/en/ds/DS1868.pdf; ComponentLink3Description: Package Specification; ComponentLink3URL: http://pdfserv.maximintegrated.com/package_dwgs/21-0043.PDF
footprint MAXM-P14-3 (DIP, 14-Leads, Body 19.05x6.985mm, Pitch 2.54mm)
pins: 1 VB (power) "Substrate Bias Voltage", 2 H1 "High End of Resistor", 3 L1 "Low End of Resistor", 4 W1 "Wiper Terminal of Resistor", 5 ~{RST} (in) "Serial Port Reset Input", 6 CLK (in) "Serial Port Clock Input", 7 GND (power) "Ground", 8 DQ (in) "Serial Port Data Input", 9 COUT (out) "Cascade Port Output", 10 L0 "Low End of Resistor", 11 H0 "High End of Resistor", 12 W0 "Wiper Terminal of Resistor", 13 SOUT (out) "Stacked Configuration Output", 14 VCC (power) "+5 Volt Supply"

## DS1868-50+
designator U?
Dual Digital Potentiometer Chip with 3-Wire Serial Control Interface, Volatile, Linear Taper, 256 Steps, -40 to 85 degC, 14-pin PDIP (P14+3), Pb-Free; PartNumber: DS1868-50+; DatasheetVersion: Rev. 1; PackageVersion: Rev. E, 04/2011; PackageReference: P14+3; PackageDescription: 14-Pin Plastic Dual-In-Line, Narrow (0.3in) (P14+3), Body 19.05 x 6.985 mm, Pitch 2.54 mm; Supplier 1: Digi-Key; Supplier Part Number 1: DS1868-50+-ND; Supplier 2: Mouser; Supplier Part Number 2: 700-DS1868-50; Control Interface: 3-Wire Serial; Mounting Technology: Through Hole; Code_JEDEC: MS001-XX; ComponentLink1Description: Manufacturer URL; ComponentLink1URL: http://www.maximintegrated.com/; ComponentLink2Description: Datasheet; ComponentLink2URL: http://datasheets.maximintegrated.com/en/ds/DS1868.pdf; ComponentLink3Description: Package Specification; ComponentLink3URL: http://pdfserv.maximintegrated.com/package_dwgs/21-0043.PDF
footprint MAXM-P14+3 (DIP, 14-Leads, Body 19.05x6.985mm, Pitch 2.54mm)
pins: 1 VB (power) "Substrate Bias Voltage", 2 H1 "High End of Resistor", 3 L1 "Low End of Resistor", 4 W1 "Wiper Terminal of Resistor", 5 ~{RST} (in) "Serial Port Reset Input", 6 CLK (in) "Serial Port Clock Input", 7 GND (power) "Ground", 8 DQ (in) "Serial Port Data Input", 9 COUT (out) "Cascade Port Output", 10 L0 "Low End of Resistor", 11 H0 "High End of Resistor", 12 W0 "Wiper Terminal of Resistor", 13 SOUT (out) "Stacked Configuration Output", 14 VCC (power) "+5 Volt Supply"

## DS1868-100
designator U?
Dual Digital Potentiometer Chip with 3-Wire Serial Control Interface, Volatile, Linear Taper, 256 Steps, -40 to 85 degC, 14-pin PDIP (P14-3); PartNumber: DS1868-100; DatasheetVersion: Rev. 1; PackageVersion: Rev. E, 04/2011; PackageReference: P14-3; PackageDescription: 14-Pin Plastic Dual-In-Line, Narrow (0.3in), Body 19.05 x 6.985 mm, Pitch 2.54 mm; Supplier 1: Digi-Key; Supplier Part Number 1: DS1868-100-ND; Supplier 2: Mouser; Supplier Part Number 2: N/A; Control Interface: 3-Wire Serial; Mounting Technology: Through Hole; Code_JEDEC: MS001-XX; ComponentLink1Description: Manufacturer URL; ComponentLink1URL: http://www.maximintegrated.com/; ComponentLink2Description: Datasheet; ComponentLink2URL: http://datasheets.maximintegrated.com/en/ds/DS1868.pdf; ComponentLink3Description: Package Specification; ComponentLink3URL: http://pdfserv.maximintegrated.com/package_dwgs/21-0043.PDF
footprint MAXM-P14-3 (DIP, 14-Leads, Body 19.05x6.985mm, Pitch 2.54mm)
pins: 1 VB (power) "Substrate Bias Voltage", 2 H1 "High End of Resistor", 3 L1 "Low End of Resistor", 4 W1 "Wiper Terminal of Resistor", 5 ~{RST} (in) "Serial Port Reset Input", 6 CLK (in) "Serial Port Clock Input", 7 GND (power) "Ground", 8 DQ (in) "Serial Port Data Input", 9 COUT (out) "Cascade Port Output", 10 L0 "Low End of Resistor", 11 H0 "High End of Resistor", 12 W0 "Wiper Terminal of Resistor", 13 SOUT (out) "Stacked Configuration Output", 14 VCC (power) "+5 Volt Supply"

## DS1868-100+
designator U?
Dual Digital Potentiometer Chip with 3-Wire Serial Control Interface, Volatile, Linear Taper, 256 Steps, -40 to 85 degC, 14-pin PDIP (P14+3), Pb-Free; PartNumber: DS1868-100+; DatasheetVersion: Rev. 1; PackageVersion: Rev. E, 04/2011; PackageReference: P14+3; PackageDescription: 14-Pin Plastic Dual-In-Line, Narrow (0.3in) (P14+3), Body 19.05 x 6.985 mm, Pitch 2.54 mm; Supplier 1: Digi-Key; Supplier Part Number 1: DS1868-100+-ND; Supplier 2: Mouser; Supplier Part Number 2: 700-DS1868-100; Control Interface: 3-Wire Serial; Mounting Technology: Through Hole; Code_JEDEC: MS001-XX; ComponentLink1Description: Manufacturer URL; ComponentLink1URL: http://www.maximintegrated.com/; ComponentLink2Description: Datasheet; ComponentLink2URL: http://datasheets.maximintegrated.com/en/ds/DS1868.pdf; ComponentLink3Description: Package Specification; ComponentLink3URL: http://pdfserv.maximintegrated.com/package_dwgs/21-0043.PDF
footprint MAXM-P14+3 (DIP, 14-Leads, Body 19.05x6.985mm, Pitch 2.54mm)
pins: 1 VB (power) "Substrate Bias Voltage", 2 H1 "High End of Resistor", 3 L1 "Low End of Resistor", 4 W1 "Wiper Terminal of Resistor", 5 ~{RST} (in) "Serial Port Reset Input", 6 CLK (in) "Serial Port Clock Input", 7 GND (power) "Ground", 8 DQ (in) "Serial Port Data Input", 9 COUT (out) "Cascade Port Output", 10 L0 "Low End of Resistor", 11 H0 "High End of Resistor", 12 W0 "Wiper Terminal of Resistor", 13 SOUT (out) "Stacked Configuration Output", 14 VCC (power) "+5 Volt Supply"

## DS1868E-10
designator U?
Dual Digital Potentiometer Chip with 3-Wire Serial Control Interface, Volatile, Linear Taper, 256 Steps, -40 to 85 degC, 20-pin TSSOP (U20-1); PartNumber: DS1868E-10; DatasheetVersion: Rev. 1; PackageVersion: Rev. L, 07/2010; PackageReference: U20-1; PackageDescription: 20-Pin Thin Shrink Small-Outline Package (U20-1), Body 6.5 x 4.4 mm, Pitch 0.65 mm; Supplier 1: Digi-Key; Supplier Part Number 1: DS1868E-10-ND; Supplier 2: Mouser; Supplier Part Number 2: N/A; Control Interface: 3-Wire Serial; Mounting Technology: Surface Mount; Code_JEDEC: MO-153; ComponentLink1Description: Manufacturer URL; ComponentLink1URL: http://www.maximintegrated.com/; ComponentLink2Description: Datasheet; ComponentLink2URL: http://datasheets.maximintegrated.com/en/ds/DS1868.pdf; ComponentLink3Description: Package Specification; ComponentLink3URL: http://pdfserv.maximintegrated.com/package_dwgs/21-0066.PDF
footprint MAXM-U20-1_N (SOP, 20-Leads, Body 6.5x4.40mm, Pitch 0.65mm, IPC Medium Density)
footprint MAXM-U20-1_L (SOP, 20-Leads, Body 6.5x4.40mm, Pitch 0.65mm, IPC High Density)
footprint MAXM-U20-1_M (SOP, 20-Leads, Body 6.5x4.40mm, Pitch 0.65mm, IPC Low Density)
part A pins: 1 VB (power) "Substrate Bias Voltage", 3 H1 "High End of Resistor", 4 L1 "Low End of Resistor", 5 W1 "Wiper Terminal of Resistor", 6 ~{RST} (in) "Serial Port Reset Input", 7 CLK (in) "Serial Port Clock Input", 10 GND (power) "Ground Connections", 11 DQ (in) "Serial Port Data Input", 13 COUT (out) "Cascade Port Output", 14 L0 "Low End of Resistor", 15 H0 "High End of Resistor", 16 W0 "Wiper Terminal of Resistor", 17 SOUT (out) "Stacked Configuration Output", 20 VCC (power) "+5 Volt Supply"
part B pins: 2 DNC "Do Not Connect", 8 DNC "Do Not Connect", 9 DNC "Do Not Connect", 12 DNC "Do Not Connect", 18 DNC "Do Not Connect", 19 DNC "Do Not Connect"

## DS1868E-10+
designator U?
Dual Digital Potentiometer Chip with 3-Wire Serial Control Interface, Volatile, Linear Taper, 256 Steps, -40 to 85 degC, 20-pin TSSOP (U20+1), Pb-Free; PartNumber: DS1868E-10+; DatasheetVersion: Rev. 1; PackageVersion: Rev. L, 07/2010; PackageReference: U20+1; PackageDescription: 20-Pin Thin Shrink Small-Outline Package (U20+1), Body 6.5 x4.4 mm, Pitch 0.65 mm; Supplier 1: Digi-Key; Supplier Part Number 1: DS1868E-10+-ND; Supplier 2: Mouser; Supplier Part Number 2: 700-DS1868E-10; Control Interface: 3-Wire Serial; Mounting Technology: Surface Mount; Code_JEDEC: MO-153; ComponentLink1Description: Manufacturer URL; ComponentLink1URL: http://www.maximintegrated.com/; ComponentLink2Description: Datasheet; ComponentLink2URL: http://datasheets.maximintegrated.com/en/ds/DS1868.pdf; ComponentLink3Description: Package Specification; ComponentLink3URL: http://pdfserv.maximintegrated.com/package_dwgs/21-0066.PDF
footprint MAXM-U20+1_N (SOP, 20-Leads, Body 6.5x4.4mm, Pitch 0.65mm, IPC Medium Density)
footprint MAXM-U20+1_L (SOP, 20-Leads, Body 6.5x4.4mm, Pitch 0.65mm, IPC High Density)
footprint MAXM-U20+1_M (SOP, 20-Leads, Body 6.5x4.4mm, Pitch 0.65mm, IPC Low Density)
part A pins: 1 VB (power) "Substrate Bias Voltage", 3 H1 "High End of Resistor", 4 L1 "Low End of Resistor", 5 W1 "Wiper Terminal of Resistor", 6 ~{RST} (in) "Serial Port Reset Input", 7 CLK (in) "Serial Port Clock Input", 10 GND (power) "Ground Connections", 11 DQ (in) "Serial Port Data Input", 13 COUT (out) "Cascade Port Output", 14 L0 "Low End of Resistor", 15 H0 "High End of Resistor", 16 W0 "Wiper Terminal of Resistor", 17 SOUT (out) "Stacked Configuration Output", 20 VCC (power) "+5 Volt Supply"
part B pins: 2 DNC "Do Not Connect", 8 DNC "Do Not Connect", 9 DNC "Do Not Connect", 12 DNC "Do Not Connect", 18 DNC "Do Not Connect", 19 DNC "Do Not Connect"